# Altium schematic symbol library TS-1186F-B-ATS-1186F-B-A.SCHLIB: 1 symbol
Pins are listed as number, name and electrical type; pins without a type are passive.

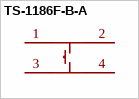
[diagram p0: symbol TS-1186F-B-A]

## TS-1186F-B-A
designator SW??  (value not drawn)
Symbol: TS-1186F-B-A
pins: 1, 2, 3, 4